# Altium footprint library Connector_USB.PcbLib: 53 footprints (part 3 of 4)
Each footprint in its own frame and in the unit in brackets; x right, y up, seen from the top. Pads: shape width x height; smd on the part's side, far side on the other; paste and mask are expansions set on the pad; w line width, h text height; cw(c..) or ccw(c..) is an arc to the next point about the centre after c.
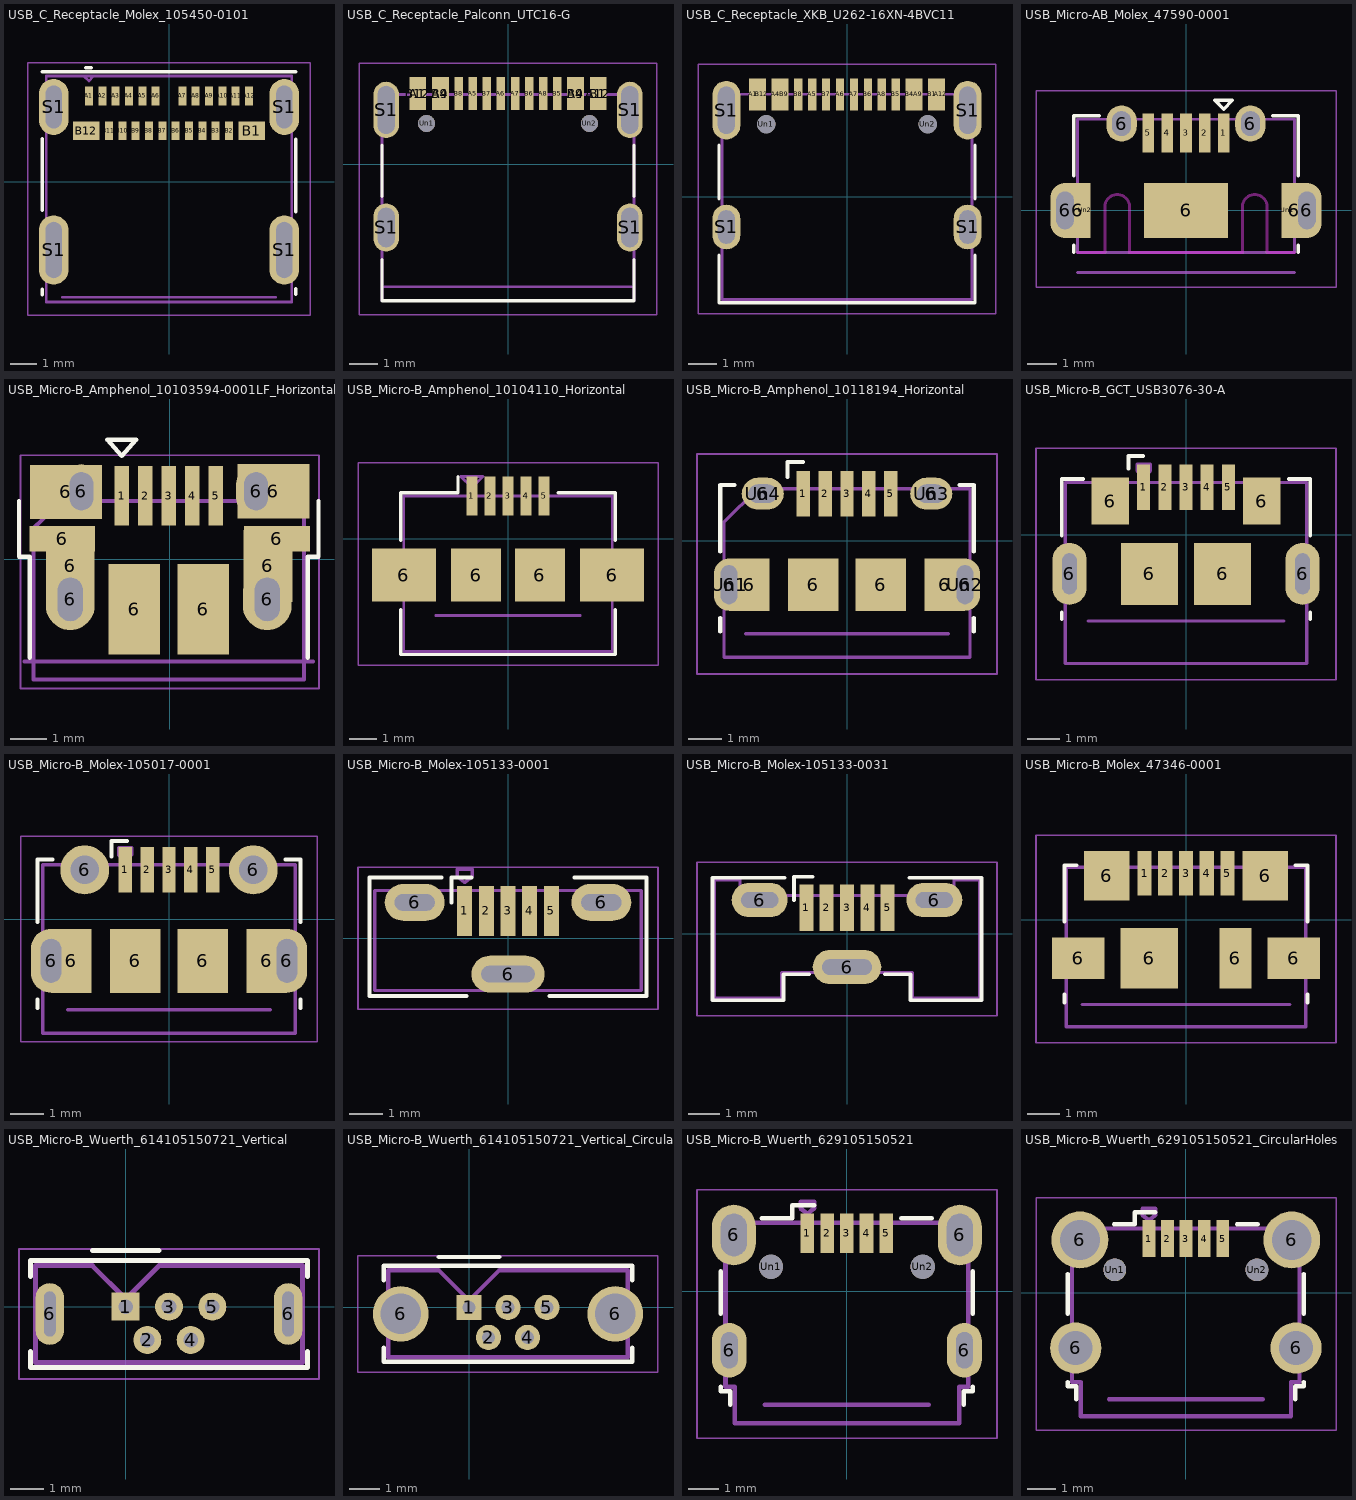
[diagram p2: the footprints below, top view; thin cyan lines are the x and y axes]

## USB_C_Receptacle_Molex_105450-0101 [mm]
pads (28):
  rect 0.3x0.7 smd: A1(-3,3.215) A2(-2.5,3.215) A3(-2,3.215) A4(-1.5,3.215) A5(-1,3.215) A6(-0.5,3.215) A7(0.5,3.215) A8(1,3.215) A9(1.5,3.215) A10(2,3.215) A11(2.5,3.215) A12(3,3.215) B2(2.25,1.915) B3(1.75,1.915) B4(1.25,1.915) B5(0.75,1.915) B6(0.25,1.915) B7(-0.25,1.915) B8(-0.75,1.915) B9(-1.25,1.915) B10(-1.75,1.915) B11(-2.25,1.915)
  rect 1x0.7 smd: B1(3.1,1.915) B12(-3.1,1.915)
  rrect100% 1.1x2.6 hole 2.1 slot 0.6 at 0 deg: S1(-4.32,-2.555) S1(4.32,-2.555)
  rrect100% 1.1x2.1 hole 1.6 slot 0.6 at 0 deg: S1(-4.32,2.805) S1(4.32,2.805)
F.SilkS:
  lines w0.12: -4.75,-4.235 -4.75,-4.025 ; -4.75,-1.075 -4.75,1.625 ; -4.75,4.125 4.75,4.125 ; -3.125,4.275 -2.9,4.275 ; 4.75,-4.225 4.75,-4 ; 4.75,-1.125 4.75,1.6
Dwgs.User:
  lines w0.1: -4,-4.325 4,-4.325
  text "PCB Edge" at -1.773,-4.333 h0.5
F.CrtYd:
  lines w0.05: -5.3,-5 -5.3,4.46 5.3,4.46 5.3,-5 -5.3,-5
F.Fab:
  lines w0.1: -3.175,3.95 -3,3.775 -2.85,3.95 ; -4.6,-4.505 4.6,-4.505 4.6,3.965 -4.6,3.965 -4.6,-4.505
  text "'.Designator'" at -4.047,-2.35 h1

## USB_C_Receptacle_Palconn_UTC16-G [mm]
pads (22):
  rect 0.6x1.16 smd: A1(-3.2,2.51) A4(-2.4,2.51) A9(2.4,2.51) A12(3.2,2.51) B1(3.2,2.51) B4(2.4,2.51) B9(-2.4,2.51) B12(-3.2,2.51)
  rect 0.3x1.16 smd: A5(-1.25,2.51) A6(-0.25,2.51) A7(0.25,2.51) A8(1.25,2.51) B5(1.75,2.51) B6(0.75,2.51) B7(-0.75,2.51) B8(-1.75,2.51)
  rrect100% 0.9x1.7 hole 0.6 slot 1.4 at 90 deg: S1(-4.32,-2.24) S1(4.32,-2.24)
  rrect100% 0.9x2 hole 0.6 slot 1.7 at 90 deg: S1(-4.32,1.93) S1(4.32,1.93)
  round 0.6 hole 0.6: Un1(-2.89,1.45) Un2(2.89,1.45)
F.SilkS:
  lines w0.12: -4.47,-3.38 -4.47,-4.84 4.47,-4.84 4.47,-3.38 ; -4.47,-1.13 -4.47,0.67 ; 4.47,-1.13 4.47,0.67
Dwgs.User:
  lines w0.1: -4.47,-4.34 4.47,-4.34
  text "PCB Edge" at -3.447,-4.247 h1
F.CrtYd:
  lines w0.05: -5.27,-5.34 5.27,-5.34 5.27,3.59 -5.27,3.59 -5.27,-5.34
F.Fab:
  lines w0.1: -4.47,-4.84 4.47,-4.84 4.47,2.48 -4.47,2.48 -4.47,-4.84
  text "'.Designator'" at -4.047,-2.02 h1

## USB_C_Receptacle_XKB_U262-16XN-4BVC11 [mm]
pads (22):
  rect 0.3x1.15 smd: A1(-3.35,3.67) A4(-2.55,3.67) A5(-1.25,3.67) A6(-0.25,3.67) A7(0.25,3.67) A8(1.25,3.67) A9(2.55,3.67) A12(3.35,3.67) B1(3.05,3.67) B4(2.25,3.67) B5(1.75,3.67) B6(0.75,3.67) B7(-0.75,3.67) B8(-1.75,3.67) B9(-2.25,3.67) B12(-3.05,3.67)
  rrect100% 1x1.6 hole 1.2 slot 0.6 at 0 deg: S1(-4.32,-1.075) S1(4.32,-1.075)
  rrect100% 1x2.1 hole 1.7 slot 0.6 at 0 deg: S1(-4.32,3.105) S1(4.32,3.105)
  round 0.65 hole 0.65: Un1(-2.89,2.605) Un2(2.89,2.605)
F.SilkS:
  lines w0.12: -4.58,-2.08 -4.58,-3.785 4.58,-3.785 4.58,-2.08 ; -4.58,-0.07 -4.58,1.85 ; 4.58,-0.07 4.58,1.85
F.CrtYd:
  lines w0.05: -5.32,-4.18 -5.32,4.75 5.32,4.75 5.32,-4.18 -5.32,-4.18
F.Fab:
  lines w0.1: -4.47,-3.675 4.47,-3.675 4.47,3.675 -4.47,3.675 -4.47,-3.675
  text "'.Designator'" at -4.047,-0.84 h1

## USB_Micro-AB_Molex_47590-0001 [mm]
pads (14):
  rect 0.4x1.35 smd: 1(1.3,2.675) 2(0.65,2.675) 3(0,2.675) 4(-0.65,2.675) 5(-1.3,2.675)
  rrect100% 1x1.9 hole 1.3 slot 0.6 at 0 deg: 6(-4.175,0) 6(4.175,0)
  rect 0.875x1.9 smd: 6(-3.738,0) 6(3.738,0)
  rrect100% 1.05x1.25 hole 0.85 slot 0.65 at 0 deg: 6(-2.225,3) 6(2.225,3)
  rect 2.9x1.9 smd: 6(0,0)
  rect 0.3x0.85 on Top Paste: Un1(3.5,0) Un2(-3.5,0)
F.SilkS:
  lines w0.12: -3.87,-1.45 -3.87,-1.2 ; -3.87,1.2 -3.87,3.27 -3,3.27 ; 3,3.27 3.87,3.27 3.87,1.2 ; 3.87,-1.45 3.87,-1.2 ; 1,3.8 1.6,3.8 1.3,3.5 1,3.8
Edge.Cuts:
  lines w0.1: -3.75,-1.45 -2.8,-1.45 -2.8,0.125 cw(c-2.375,0.125) -1.95,0.125 -1.95,-1.45 1.95,-1.45 1.95,0.125 cw(c2.375,0.125) 2.8,0.125 2.8,-1.45 3.75,-1.45
Dwgs.User:
  text "PCB Edge" at -1.359,-1.757 h0.4
F.CrtYd:
  lines w0.05: -5.18,-2.65 -5.18,4.13 5.18,4.13 5.18,-2.65 -5.18,-2.65
F.Fab:
  lines w0.1: -3.75,-2.15 3.75,-2.15 ; -3.75,-1.45 -3.75,3.15 3.75,3.15 3.75,-1.45 -3.75,-1.45
  text "'.Designator'" at -4.047,0.66 h1

## USB_Micro-B_Amphenol_10103594-0001LF_Horizontal [mm]
pads (17):
  rect 0.4x1.65 smd: 1(-1.325,1.765) 2(-0.675,1.765) 3(-0.025,1.765) 4(0.625,1.765) 5(1.275,1.765)
  rect 1.825x0.7 smd: 6(-2.975,0.565) 6(2.975,0.565)
  rect 2x1.5 smd: 6(-2.875,1.865) 6(2.875,1.885)
  rrect100% 1.35x1.7 hole 0.7 slot 1.2 at 90 deg: 6(-2.755,-1.115) 6(2.705,-1.115)
  rect 1.35x2 smd: 6(-2.755,-0.185) 6(2.725,-0.185)
  rrect100% 1.1x1.5 hole 0.65 slot 1.05 at 90 deg: 6(-2.445,1.885) 6(2.395,1.885)
  rect 1.43x2.5 smd: 6(-0.985,-1.385) 6(0.935,-1.385)
F.SilkS:
  lines w0.12: -4.175,1.615 -4.175,0.065 -3.875,0.065 -3.875,-2.735 ; 3.825,-2.735 3.825,0.065 4.125,0.065 4.125,1.615 ; -1.725,3.315 -1.325,2.865 -0.925,3.315 -1.725,3.315
Dwgs.User:
  lines w0.1: -4.025,-2.835 3.975,-2.835
  text "PCB edge" at -1.748,-2.643 h0.5
F.CrtYd:
  lines w0.05: -4.13,-3.58 -4.13,2.88 4.14,2.88 4.14,-3.58 -4.13,-3.58
F.Fab:
  lines w0.12: -3.775,-3.335 3.725,-3.335 3.725,1.615 -2.975,1.615 -3.775,0.865 -3.775,-3.335
  text "'.Designator'" at -4.072,-0.825 h1

## USB_Micro-B_Amphenol_10104110_Horizontal [mm]
pads (9):
  rect 0.4x1.4 smd: 1(-1.3,1.55) 2(-0.65,1.55) 3(0,1.55) 4(0.65,1.55) 5(1.3,1.55)
  rect 2.3x1.9 smd: 6(-3.75,-1.3) 6(3.75,-1.3)
  rect 1.8x1.9 smd: 6(-1.15,-1.3) 6(1.15,-1.3)
F.SilkS:
  lines w0.12: -3.86,-2.55 -3.86,-4.16 3.86,-4.16 3.86,-2.55 ; -3.86,-0.05 -3.86,1.66 -1.8,1.66 -1.8,2.25 ; 1.8,1.66 3.86,1.66 3.86,-0.05
Dwgs.User:
  text "PCB edge" at -1.728,-3.163 h0.5
F.CrtYd:
  lines w0.05: -5.4,-4.55 5.4,-4.55 5.4,2.75 -5.4,2.75 -5.4,-4.55
F.Fab:
  lines w0.1: -2.6,-2.75 2.6,-2.75 ; -3.75,-4.05 3.75,-4.05 3.75,1.55 -3.75,1.55 -3.75,-4.05 ; -1.7,2.25 -1.3,1.85 -0.9,2.25 -1.7,2.25
  text "'.Designator'" at -4.047,-0.64 h1

## USB_Micro-B_Amphenol_10118194_Horizontal [mm]
pads (17):
  rect 0.4x1.35 smd: 1(-1.3,1.4) 2(-0.65,1.4) 3(0,1.4) 4(0.65,1.4) 5(1.3,1.4)
  rrect100% 0.89x1.55 hole 1.15 slot 0.5 at 0 deg: 6(-3.5,-1.3) 6(3.5,-1.3)
  rect 1.2x1.55 smd: 6(-2.9,-1.3) 6(2.9,-1.3)
  rrect100% 1.25x0.95 hole 0.55 slot 0.85 at 0 deg: 6(-2.5,1.4) 6(2.5,1.4)
  rect 1.5x1.55 smd: 6(-1,-1.3) 6(1,-1.3)
  rrect100% 0.89x1.55 on Top Paste: Un1(-3.5,-1.3) Un2(3.5,-1.3)
  rrect100% 1.25x0.95 on Top Paste: Un3(2.5,1.4) Un4(-2.5,1.4)
F.SilkS:
  lines w0.12: -3.76,-2.69 -3.76,-2.29 ; -3.76,-0.32 -3.76,1.66 -3.34,1.66 ; -1.76,1.89 -1.76,2.34 -1.31,2.34 ; 3.34,1.66 3.76,1.66 3.76,-0.32 ; 3.76,-2.69 3.76,-2.29
Dwgs.User:
  lines w0.1: -3,-2.75 3,-2.75
  text "PCB Edge" at -1.728,-3.163 h0.5
F.CrtYd:
  lines w0.05: -4.45,-3.95 4.45,-3.95 4.45,2.58 -4.45,2.58 -4.45,-3.95
F.Fab:
  lines w0.1: -3.65,-3.45 3.65,-3.45 3.65,1.55 -2.65,1.55 -3.65,0.55 -3.65,-3.45
  text "'.Designator'" at -4.047,-0.79 h1

## USB_Micro-B_GCT_USB3076-30-A [mm]
pads (11):
  rect 0.4x1.4 smd: 1(-1.3,1.45) 2(-0.65,1.45) 3(0,1.45) 4(0.65,1.45) 5(1.3,1.45)
  rrect100% 1.05x1.9 hole 1.25 slot 0.45 at 0 deg: 6(-3.575,-1.2) 6(3.575,-1.2)
  rect 1.15x1.45 smd: 6(-2.32,1.03) 6(2.32,1.03)
  rect 1.75x1.9 smd: 6(-1.125,-1.2) 6(1.125,-1.2)
F.SilkS:
  lines w0.12: -3.81,-2.59 -3.81,-2.38 ; -3.81,-0.02 -3.81,1.71 -3.15,1.71 ; -1.76,2.02 -1.76,2.41 -1.31,2.41 ; 3.16,1.71 3.81,1.71 3.81,-0.02 ; 3.81,-2.59 3.81,-2.38
Dwgs.User:
  text "PCB Edge" at -1.728,-3.063 h0.5
F.CrtYd:
  lines w0.05: -4.6,-4.45 4.6,-4.45 4.6,2.65 -4.6,2.65 -4.6,-4.45
F.Fab:
  lines w0.1: -3,-2.65 3,-2.65 ; -3.7,-3.95 3.7,-3.95 3.7,1.6 -3.7,1.6 -3.7,-3.95 ; -1.5,1.95 -1.3,1.75 -1.1,1.95 -1.1,2.16 -1.5,2.16 -1.5,1.95
  text "'.Designator'" at -4.047,-1.69 h1

## USB_Micro-B_Molex-105017-0001 [mm]
pads (13):
  rect 0.4x1.35 smd: 1(-1.3,1.462) 2(-0.65,1.462) 3(0,1.462) 4(0.65,1.462) 5(1.3,1.462)
  rrect100% 1.2x1.9 hole 1.3 slot 0.6 at 0 deg: 6(-3.5,-1.238) 6(3.5,-1.238)
  rect 1.2x1.9 smd: 6(-2.9,-1.238) 6(2.9,-1.238)
  round 1.45 hole 0.85: 6(-2.5,1.462) 6(2.5,1.462)
  rect 1.5x1.9 smd: 6(-1,-1.238) 6(1,-1.238)
F.SilkS:
  lines w0.12: -3.9,-2.638 -3.9,-2.388 ; -3.9,-0.088 -3.9,1.763 -3.45,1.763 ; -1.7,1.863 -1.7,2.312 -1.25,2.312 ; 3.45,1.763 3.9,1.763 3.9,-0.088 ; 3.9,-2.638 3.9,-2.388
Dwgs.User:
  text "PCB Edge" at -1.728,-3.101 h0.5
F.CrtYd:
  lines w0.05: -4.4,-3.64 -4.4,2.46 4.4,2.46 4.4,-3.64 -4.4,-3.64
F.Fab:
  lines w0.1: -3.75,-3.389 3.75,-3.389 ; -3.75,-3.387 -3.75,1.613 3.75,1.613 3.75,-3.387 ; -3,-2.689 3,-2.689 ; -1.5,1.913 -1.5,2.123 -1.1,2.123 -1.1,1.913 -1.3,1.713 -1.5,1.913
  text "'.Designator'" at -4.047,-1.728 h1

## USB_Micro-B_Molex-105133-0001 [mm]
pads (8):
  rect 0.45x1.5 smd: 1(-1.3,0.825) 2(-0.65,0.825) 3(0,0.825) 4(0.65,0.825) 5(1.3,0.825)
  rrect100% 1.8x1.1 hole 0.5 slot 1.2 at 0 deg: 6(-2.8,1.075) 6(2.8,1.075)
  rrect100% 2.2x1.1 hole 0.5 slot 1.6 at 0 deg: 6(0,-1.075)
F.SilkS:
  lines w0.12: -2,1.825 -4.15,1.825 -4.15,-1.725 -1.25,-1.725 ; -1.7,1.075 -1.7,1.825 -1.1,1.825 ; 1.25,-1.725 4.15,-1.725 4.15,1.825 2,1.825
F.CrtYd:
  lines w0.05: -4.5,-2.13 4.5,-2.13 4.5,2.13 -4.5,2.13 -4.5,-2.13
F.Fab:
  lines w0.1: -4,-1.565 -4,1.435 4,1.435 4,-1.565 -4,-1.565 ; -1.525,1.85 -1.3,1.675 -1.075,1.85 -1.075,2.075 -1.525,2.075 -1.525,1.85
  text "'.Designator'" at -4.047,-0.465 h1

## USB_Micro-B_Molex-105133-0031 [mm]
pads (8):
  rect 0.45x1.5 smd: 1(-1.3,0.825) 2(-0.65,0.825) 3(0,0.825) 4(0.65,0.825) 5(1.3,0.825)
  rrect100% 1.8x1.1 hole 0.5 slot 1.2 at 0 deg: 6(-2.8,1.075) 6(2.8,1.075)
  rrect100% 2.2x1.1 hole 0.5 slot 1.6 at 0 deg: 6(0,-1.075)
F.SilkS:
  lines w0.12: -2,1.785 -4.31,1.785 -4.31,-2.135 -2.04,-2.135 -2.04,-1.305 -1.21,-1.305 ; -1.7,1.075 -1.7,1.825 -1.1,1.825 ; 1.21,-1.305 2.04,-1.305 2.04,-2.135 4.31,-2.135 4.31,1.785 2,1.785
F.CrtYd:
  lines w0.05: -4.81,-2.64 4.81,-2.64 4.81,2.29 -4.81,2.29 -4.81,-2.64
F.Fab:
  lines w0.1: -4.25,-2.075 -2.1,-2.075 -2.1,-1.245 2.1,-1.245 2.1,-2.075 4.25,-2.075 4.25,1.725 3.43,1.725 3.43,1.225 -1.075,1.225 -1.3,1 -1.525,1.225 -3.43,1.225 -3.43,1.725 -4.25,1.725 -4.25,-2.075
  text "'.Designator'" at -4.047,-0.465 h1

## USB_Micro-B_Molex_47346-0001 [mm]
pads (11):
  rect 0.45x1.38 smd: 1(-1.3,1.46) 2(-0.65,1.46) 3(0,1.46) 4(0.65,1.46) 5(1.3,1.46)
  rect 1.65x1.3 smd: 6(-3.375,-1.2) 6(3.375,-1.2)
  rect 1.425x1.55 smd: 6(-2.488,1.375) 6(2.488,1.375)
  rect 1.8x1.9 smd: 6(-1.15,-1.2)
  rect 1x1.9 smd: 6(1.55,-1.2)
F.SilkS:
  lines w0.12: -3.81,-2.6 -3.81,-2.34 ; -3.81,-0.06 -3.81,1.71 -3.43,1.71 ; 3.43,1.71 3.81,1.71 3.81,-0.06 ; 3.81,-2.6 3.81,-2.34
Dwgs.User:
  text "PCB Edge" at -1.359,-2.977 h0.4
F.CrtYd:
  lines w0.05: -4.7,-3.85 -4.7,2.65 4.7,2.65 4.7,-3.85 -4.7,-3.85
F.Fab:
  lines w0.1: -3.25,-2.65 3.25,-2.65 ; -3.75,-3.35 3.75,-3.35 3.75,1.65 -3.75,1.65 -3.75,-3.35
  text "'.Designator'" at -4.047,-2.04 h1

## USB_Micro-B_Wuerth_614105150721_Vertical [mm]
pads (7):
  rect 0.84x0.84 hole 0.44: 1(0,0)
  round 0.84 hole 0.44: 2(0.65,-1) 3(1.3,0) 4(1.95,-1) 5(2.6,0)
  rrect100% 0.85x1.85 hole 1.35 slot 0.35 at 0 deg: 6(-2.275,-0.22) 6(4.875,-0.22)
F.SilkS:
  lines w0.15: -2.85,-1.345 -2.85,-1.82 5.45,-1.82 5.45,-1.345 ; -2.85,0.905 -2.85,1.38 5.45,1.38 5.45,0.905 ; -1,1.68 1,1.68
F.CrtYd:
  lines w0.05: -3.2,-2.17 -3.2,1.73 5.8,1.73 5.8,-2.17 -3.2,-2.17
F.Fab:
  lines w0.15: -2.7,-1.67 5.3,-1.67 5.3,1.23 1,1.23 0,0.23 -1,1.23 -2.7,1.23 -2.7,-1.67
  text "'.Designator'" at -2.747,-1.06 h1

## USB_Micro-B_Wuerth_614105150721_Vertical_CircularHoles [mm]
pads (7):
  rect 0.84x0.84 hole 0.44: 1(0,0)
  round 0.84 hole 0.44: 2(0.65,-1) 3(1.3,0) 4(1.95,-1) 5(2.6,0)
  round 1.85 hole 1.35: 6(-2.275,-0.22) 6(4.875,-0.22)
F.SilkS:
  lines w0.15: -2.85,-1.345 -2.85,-1.82 5.45,-1.82 5.45,-1.345 ; -2.85,0.905 -2.85,1.38 5.45,1.38 5.45,0.905 ; -1,1.68 1,1.68
F.CrtYd:
  lines w0.05: -3.7,-2.17 6.3,-2.17 6.3,1.73 -3.7,1.73 -3.7,-2.17
F.Fab:
  lines w0.15: -2.7,-1.67 5.3,-1.67 5.3,1.23 1,1.23 0,0.23 -1,1.23 -2.7,1.23 -2.7,-1.67
  text "'.Designator'" at -2.747,-1.06 h1

## USB_Micro-B_Wuerth_629105150521 [mm]
pads (11):
  rect 0.45x1.3 smd: 1(-1.3,1.9) 2(-0.65,1.9) 3(0,1.9) 4(0.65,1.9) 5(1.3,1.9)
  rrect100% 1.15x1.8 hole 1.2 slot 0.55 at 0 deg: 6(-3.875,-1.95) 6(3.875,-1.95)
  rrect100% 1.45x2 hole 1.4 slot 0.85 at 0 deg: 6(-3.725,1.85) 6(3.725,1.85)
  rrect100% 0.8x0.8 hole 0.8: Un1(-2.5,0.8) Un2(2.5,0.8)
F.SilkS:
  lines w0.15: -4.15,-3.15 -4.15,-3.3 -3.85,-3.3 -3.85,-3.75 ; -4.15,-0.75 -4.15,0.65 ; -2.8,2.4 -1.8,2.4 -1.8,2.825 -1.075,2.825 ; 1.8,2.4 2.8,2.4 ; 3.85,-3.75 3.85,-3.3 4.15,-3.3 4.15,-3.15 ; 4.15,-0.75 4.15,0.65
Dwgs.User:
  text "PCB Edge" at -1.728,-4.163 h0.5
F.CrtYd:
  lines w0.05: -4.94,-4.85 4.95,-4.85 4.95,3.34 -4.94,3.34 -4.94,-4.85
F.Fab:
  lines w0.15: -2.7,-3.75 2.7,-3.75 ; -4,-3.15 -3.7,-3.15 -3.7,-4.35 3.7,-4.35 3.7,-3.15 4,-3.15 4,2.25 -4,2.25 -4,-3.15 ; -1.525,2.725 -1.525,2.95 -1.075,2.95 -1.075,2.725 -1.3,2.55 -1.525,2.725
  text "'.Designator'" at -4.047,-1.89 h1

## USB_Micro-B_Wuerth_629105150521_CircularHoles [mm]
pads (11):
  rect 0.45x1.3 smd: 1(-1.3,1.9) 2(-0.65,1.9) 3(0,1.9) 4(0.65,1.9) 5(1.3,1.9)
  round 1.8 hole 1.2: 6(-3.875,-1.95) 6(3.875,-1.95)
  round 2 hole 1.4: 6(-3.725,1.85) 6(3.725,1.85)
  round 0.8 hole 0.8: Un1(-2.5,0.8) Un2(2.5,0.8)
F.SilkS:
  lines w0.15: -4.15,-3.15 -4.15,-3.3 -3.85,-3.3 -3.85,-3.75 ; -4.15,-0.75 -4.15,0.65 ; -2.525,2.4 -1.8,2.4 -1.8,2.825 -1.075,2.825 ; 1.8,2.4 2.525,2.4 ; 3.85,-3.75 3.85,-3.3 4.15,-3.3 4.15,-3.15 ; 4.15,-0.75 4.15,0.65
Dwgs.User:
  text "PCB Edge" at -1.728,-4.163 h0.5
F.CrtYd:
  lines w0.05: -5.27,-4.85 5.28,-4.85 5.28,3.34 -5.27,3.34 -5.27,-4.85
F.Fab:
  lines w0.15: -2.7,-3.75 2.7,-3.75 ; -4,-3.15 -4,2.25 4,2.25 4,-3.15 3.7,-3.15 3.7,-4.35 -3.7,-4.35 -3.7,-3.15 -4,-3.15 ; -1.525,2.725 -1.3,2.55 -1.075,2.725 -1.075,2.95 -1.525,2.95 -1.525,2.725
  text "'.Designator'" at -4.047,-1.89 h1